# EAGLE library part LPC1768 (library fruit-parts)
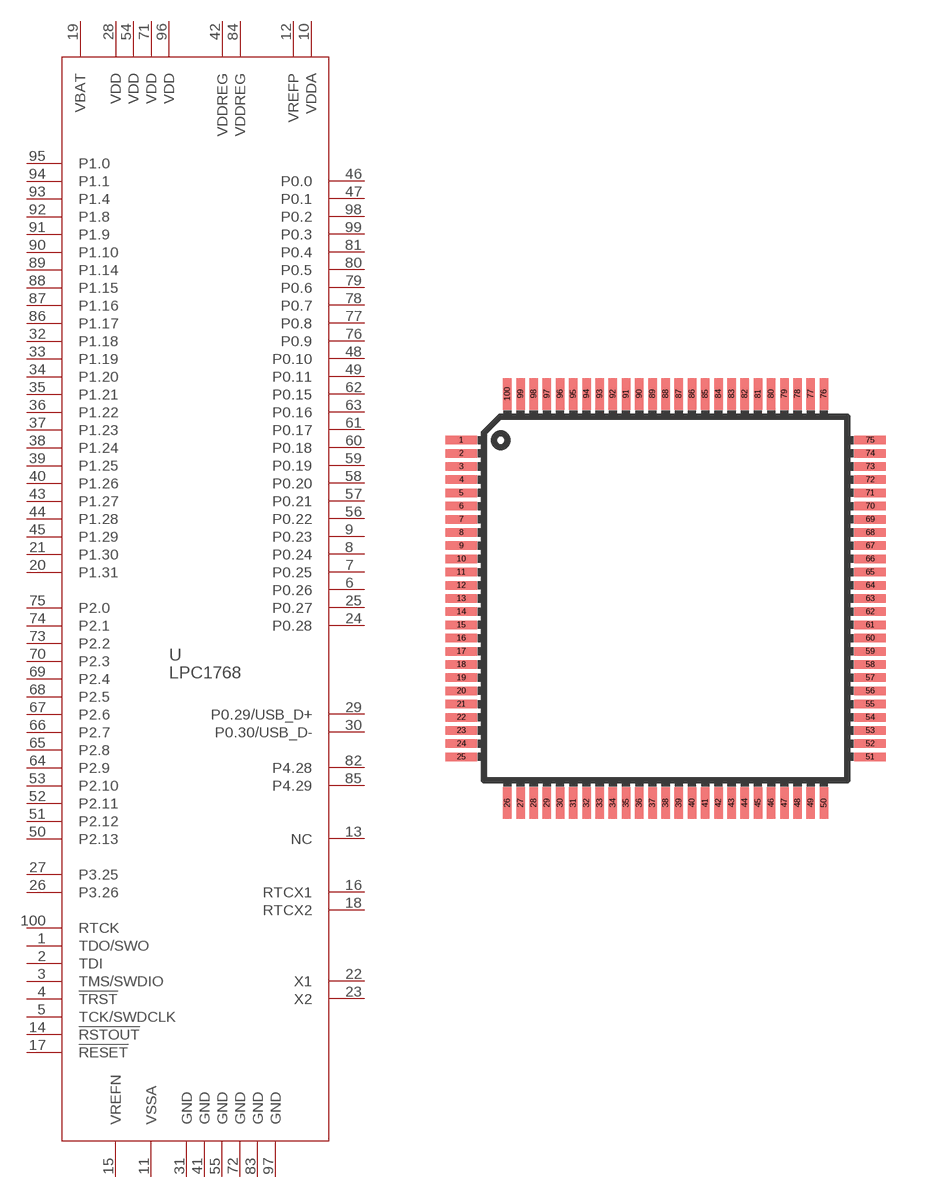
[diagram p8: symbol with the pads of LQFP100; footprint LQFP100]

Designator prefix U

## LPC1768  [LQFP100]
1  TDO/SWO
2  TDI
3  TMS/SWDIO
4  !TRST
5  TCK/SWDCLK
6  P0.26
7  P0.25
8  P0.24
9  P0.23
10  VDDA  pwr
11  VSSA  pwr
12  VREFP  pwr
13  NC  nc
14  !RSTOUT
15  VREFN  pwr
16  RTCX1
17  !RESET
18  RTCX2
19  VBAT  pwr
20  P1.31
21  P1.30
22  X1
23  X2
24  P0.28
25  P0.27
26  P3.26
27  P3.25
28  VDD  pwr
29  P0.29/USB_D+
30  P0.30/USB_D-
31  GND  pwr
32  P1.18
33  P1.19
34  P1.20
35  P1.21
36  P1.22
37  P1.23
38  P1.24
39  P1.25
40  P1.26
41  GND  pwr
42  VDDREG  pwr
43  P1.27
44  P1.28
45  P1.29
46  P0.0
47  P0.1
48  P0.10
49  P0.11
50  P2.13
51  P2.12
52  P2.11
53  P2.10
54  VDD  pwr
55  GND  pwr
56  P0.22
57  P0.21
58  P0.20
59  P0.19
60  P0.18
61  P0.17
62  P0.15
63  P0.16
64  P2.9
65  P2.8
66  P2.7
67  P2.6
68  P2.5
69  P2.4
70  P2.3
71  VDD  pwr
72  GND  pwr
73  P2.2
74  P2.1
75  P2.0
76  P0.9
77  P0.8
78  P0.7
79  P0.6
80  P0.5
81  P0.4
82  P4.28
83  GND  pwr
84  VDDREG  pwr
85  P4.29
86  P1.17
87  P1.16
88  P1.15
89  P1.14
90  P1.10
91  P1.9
92  P1.8
93  P1.4
94  P1.1
95  P1.0
96  VDD  pwr
97  GND  pwr
98  P0.2
99  P0.3
100  RTCK

## Footprint LQFP100 (pad centres in mm)
100-Lead Metric Thin Plastic Quad Flatpack
smd 1.2 x 0.32: 1 -7.75,6; 2 -7.75,5.5; 3 -7.75,5; 4 -7.75,4.5; 5 -7.75,4; 6 -7.75,3.5; 7 -7.75,3; 8 -7.75,2.5; 9 -7.75,2; 10 -7.75,1.5; 11 -7.75,1; 12 -7.75,0.5; 13 -7.75,0; 14 -7.75,-0.5; 15 -7.75,-1; 16 -7.75,-1.5; 17 -7.75,-2; 18 -7.75,-2.5; 19 -7.75,-3; 20 -7.75,-3.5; 21 -7.75,-4; 22 -7.75,-4.5; 23 -7.75,-5; 24 -7.75,-5.5; 25 -7.75,-6; 51 7.75,-6; 52 7.75,-5.5; 53 7.75,-5; 54 7.75,-4.5; 55 7.75,-4; 56 7.75,-3.5; 57 7.75,-3; 58 7.75,-2.5; 59 7.75,-2; 60 7.75,-1.5; 61 7.75,-1; 62 7.75,-0.5; 63 7.75,0; 64 7.75,0.5; 65 7.75,1; 66 7.75,1.5; 67 7.75,2; 68 7.75,2.5; 69 7.75,3; 70 7.75,3.5; 71 7.75,4; 72 7.75,4.5; 73 7.75,5; 74 7.75,5.5; 75 7.75,6
smd 0.32 x 1.2: 26 -6,-7.75; 27 -5.5,-7.75; 28 -5,-7.75; 29 -4.5,-7.75; 30 -4,-7.75; 31 -3.5,-7.75; 32 -3,-7.75; 33 -2.5,-7.75; 34 -2,-7.75; 35 -1.5,-7.75; 36 -1,-7.75; 37 -0.5,-7.75; 38 0,-7.75; 39 0.5,-7.75; 40 1,-7.75; 41 1.5,-7.75; 42 2,-7.75; 43 2.5,-7.75; 44 3,-7.75; 45 3.5,-7.75; 46 4,-7.75; 47 4.5,-7.75; 48 5,-7.75; 49 5.5,-7.75; 50 6,-7.75; 76 6,7.75; 77 5.5,7.75; 78 5,7.75; 79 4.5,7.75; 80 4,7.75; 81 3.5,7.75; 82 3,7.75; 83 2.5,7.75; 84 2,7.75; 85 1.5,7.75; 86 1,7.75; 87 0.5,7.75; 88 0,7.75; 89 -0.5,7.75; 90 -1,7.75; 91 -1.5,7.75; 92 -2,7.75; 93 -2.5,7.75; 94 -3,7.75; 95 -3.5,7.75; 96 -4,7.75; 97 -4.5,7.75; 98 -5,7.75; 99 -5.5,7.75; 100 -6,7.75